# Altium schematic symbol library SCH - SWITCH - SPST 4PIN NO.SCHLIB: 1 symbol
Pins are listed as number, name and electrical type; pins without a type are passive.

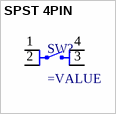
[diagram p0: symbol SPST 4PIN]

## SPST 4PIN
designator SW?
pins: 1, 2, 3, 4